# EAGLE library part 416131160804 (library EAGLE-TACT_SWITCHES-rev16e)
WS-DISV SMD version flat actuator with top tape sealed Specification Contact Rating Switching :25mA, 24VDC Non-Switching : 100mA, 50VDC Contact Resistance Initial:50mΩ max. After life test: 100mΩ max. Insulation Resistance: min.100MΩ at 500VDC Dielectric Strength : 300VAC for 1 minute Operation Force :500g max. Mechanical Life :min 2000 cycles Electrical Life : 1000 cycles / 25mA, 24VDC Flat Actuator with top tape sealed Material Cover : : PPS UL 94V-0, color Black Base :PPS UL 94V-0, color Black Actuator :PA 46 UL HB, color White Contact : : Gold Plated Terminal : Gold Plated Tape: Polyimide Tape <http://katalog.we-online.de/media/images/v2/Family_WS-DISV_SMD_FLAT_ACTUATOR_4161311608xx_4C.jpg> Details see: http://katalog.we-online.de/en/em/DISV_1_27_SMALL_COMPACT_SMD_FLAT_ACTUATOR/416131160804 2015 (C) Wurth Elektronik
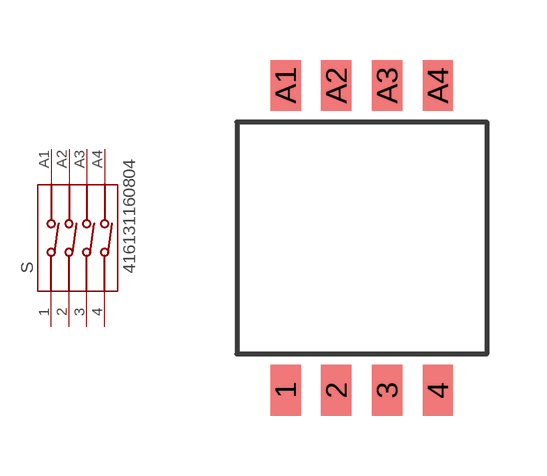
[diagram p159: symbol with the pads of 416131160804; footprint 416131160804]

Designator prefix S

## 416131160804  [416131160804]
1  1  pas
2  2  pas
3  3  pas
4  4  pas
A1  A1  pas
A2  A2  pas
A3  A3  pas
A4  A4  pas

## Footprint 416131160804 (pad centres in mm)
WS-DISV SMD version flat actuator with top tape sealed 416131160804
smd 0.76 x 1.27: 1 -1.905,-3.81; 2 -0.635,-3.81; 3 0.635,-3.81; 4 1.905,-3.81; A1 -1.905,3.81; A2 -0.635,3.81; A3 0.635,3.81; A4 1.905,3.81